# Altium footprint library Components - 12.06.24 - 11.07.PcbLib: 1 footprints
Each footprint in its own frame and in the unit in brackets; x right, y up, seen from the top. Pads: shape width x height; smd on the part's side, far side on the other; paste and mask are expansions set on the pad; w line width, h text height; cw(c..) or ccw(c..) is an arc to the next point about the centre after c.
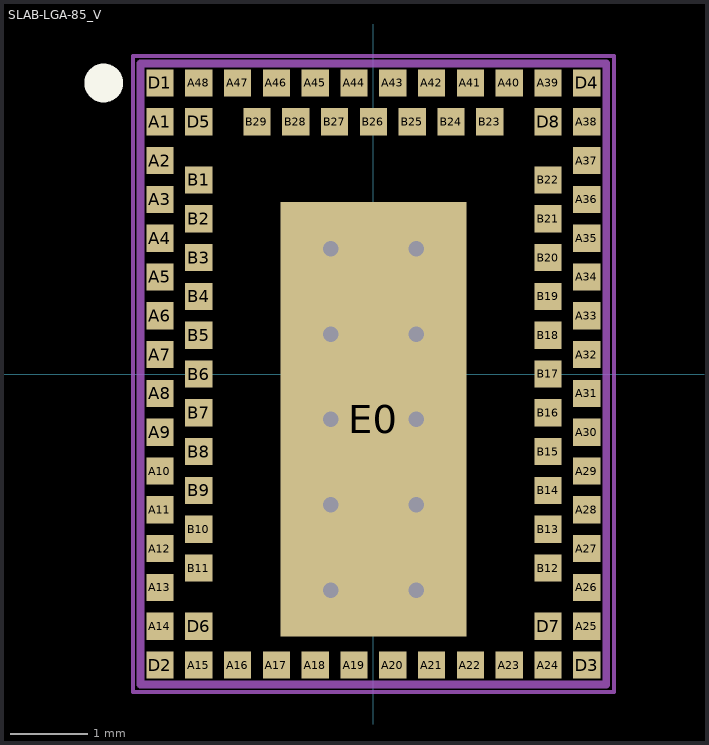
[diagram p0: the footprint, top view; thin cyan lines are the x and y axes]

## SLAB-LGA-85_V [mm] "LGA, 85-Leads, Body 8x6mm, Thermal Pad 2.4x5.6mm"
height 0.94
pads (86):
  rect 0.35x0.35 smd: A1(-2.75,3.25) A2(-2.75,2.75) A3(-2.75,2.25) A4(-2.75,1.75) A5(-2.75,1.25) A6(-2.75,0.75) A7(-2.75,0.25) A8(-2.75,-0.25) A9(-2.75,-0.75) A10(-2.75,-1.25) A11(-2.75,-1.75) A12(-2.75,-2.25) A13(-2.75,-2.75) A14(-2.75,-3.25) A15(-2.25,-3.75) A16(-1.75,-3.75) A17(-1.25,-3.75) A18(-0.75,-3.75) A19(-0.25,-3.75) A20(0.25,-3.75) A21(0.75,-3.75) A22(1.25,-3.75) A23(1.75,-3.75) A24(2.25,-3.75) A25(2.75,-3.25) A26(2.75,-2.75) A27(2.75,-2.25) A28(2.75,-1.75) A29(2.75,-1.25) A30(2.75,-0.75) A31(2.75,-0.25) A32(2.75,0.25) A33(2.75,0.75) A34(2.75,1.25) A35(2.75,1.75) A36(2.75,2.25) A37(2.75,2.75) A38(2.75,3.25) A39(2.25,3.75) A40(1.75,3.75) A41(1.25,3.75) A42(0.75,3.75) A43(0.25,3.75) A44(-0.25,3.75) A45(-0.75,3.75) A46(-1.25,3.75) A47(-1.75,3.75) A48(-2.25,3.75) B1(-2.25,2.5) B2(-2.25,2) B3(-2.25,1.5) B4(-2.25,1) B5(-2.25,0.5) B6(-2.25,0) B7(-2.25,-0.5) B8(-2.25,-1) B9(-2.25,-1.5) B10(-2.25,-2) B11(-2.25,-2.5) B12(2.25,-2.5) B13(2.25,-2) B14(2.25,-1.5) B15(2.25,-1) B16(2.25,-0.5) B17(2.25,0) B18(2.25,0.5) B19(2.25,1) B20(2.25,1.5) B21(2.25,2) B22(2.25,2.5) B23(1.5,3.25) B24(1,3.25) B25(0.5,3.25) B26(0,3.25) B27(-0.5,3.25) B28(-1,3.25) B29(-1.5,3.25) D1(-2.75,3.75) D2(-2.75,-3.75) D3(2.75,-3.75) D4(2.75,3.75) D5(-2.25,3.25) D6(-2.25,-3.25) D7(2.25,-3.25) D8(2.25,3.25)
  rect 2.4x5.6 smd: E0(0,-0.585)
via 0.55,1.615 diameter 0.5 hole 0.2
via -0.55,1.615 diameter 0.5 hole 0.2
via -0.55,-2.785 diameter 0.5 hole 0.2
via -0.55,0.515 diameter 0.5 hole 0.2
via -0.55,-1.685 diameter 0.5 hole 0.2
via -0.55,-0.585 diameter 0.5 hole 0.2
via 0.55,-1.685 diameter 0.5 hole 0.2
via 0.55,-0.585 diameter 0.5 hole 0.2
via 0.55,-2.785 diameter 0.5 hole 0.2
via 0.55,0.515 diameter 0.5 hole 0.2
Top Overlay:
  circle w0.25: c-3.475,3.75 r0.125
Mechanical 13:
  lines w0.1: -3,-4 3,-4 3,4 -3,4 -3,-4
Mechanical 15:
  lines w0.05: -3.1,-4.1 3.1,-4.1 3.1,4.1 -3.1,4.1 -3.1,-4.1
  lines w0.1: -0.5,0 0.5,0 ; 0,-0.5 0,0.5
3D body: height 0.94, standoff 0, extent -3,-4 3,4